# Altium schematic symbol library Switch.SchLib: 2 symbols
Pins are listed as number, name and electrical type; pins without a type are passive.

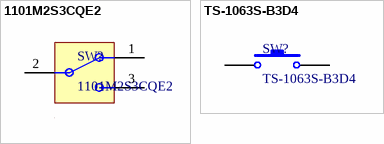
[diagram p0: symbols 1101M2S3CQE2 to TS-1063S-B3D4]

## 1101M2S3CQE2
designator SW?
Switch Slide SPDT 6A 120V
footprint 1101M2S3CQE2
pins: 1, 2, 3

## TS-1063S-B3D4
designator SW?
SPST 250gf@±30gf -  Tactile Switches ROHS
footprint TS-1063S-B3D4 (Side push, surface mount, button)
pins: 1, 2